# Altium footprint library Logic_Level_Shifter.PcbLib: 1 footprints
Each footprint in its own frame and in the unit in brackets; x right, y up, seen from the top. Pads: shape width x height; smd on the part's side, far side on the other; paste and mask are expansions set on the pad; w line width, h text height; cw(c..) or ccw(c..) is an arc to the next point about the centre after c.
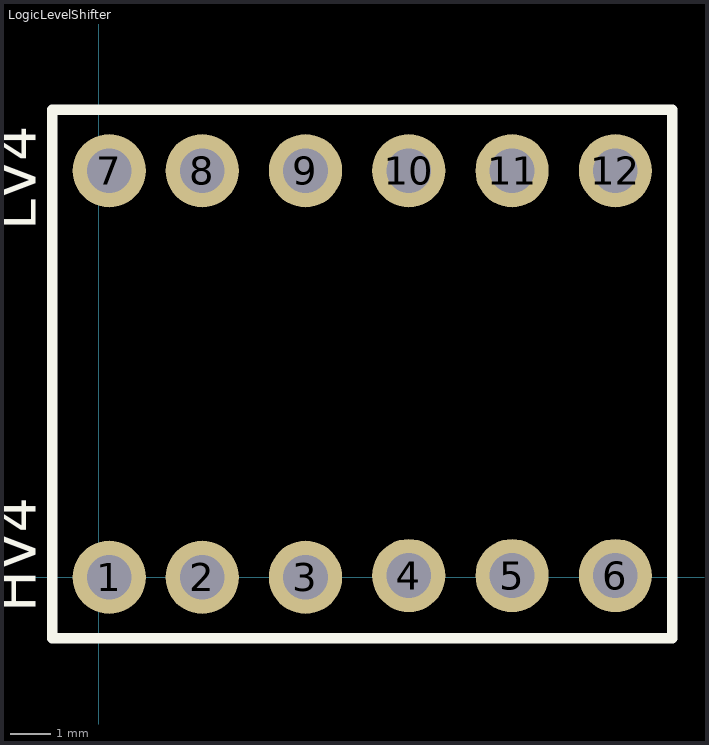
[diagram p0: the footprint, top view; thin cyan lines are the x and y axes]

## LogicLevelShifter [mm]
pads (12):
  round 1.8 hole 1.1: 1(0.254,0) 2(2.54,0) 3(5.08,0) 4(7.62,0.043) 5(10.16,0.043) 6(12.7,0.043) 7(0.254,10) 8(2.54,10) 9(5.08,10) 10(7.62,10) 11(10.16,10) 12(12.7,10)
Top Overlay:
  lines w0.254: -1.143,-1.5 14.097,-1.5 14.097,11.5 -1.143,11.5 -1.143,-1.5
  text "HV4" at -1.551,-0.862 h1
  text "LV4" at -1.551,8.536 h1